# Altium footprint library Package_TO_SOT_THT.PcbLib: 236 footprints (part 13 of 15)
Each footprint in its own frame and in the unit in brackets; x right, y up, seen from the top. Pads: shape width x height; smd on the part's side, far side on the other; paste and mask are expansions set on the pad; w line width, h text height; cw(c..) or ccw(c..) is an arc to the next point about the centre after c.
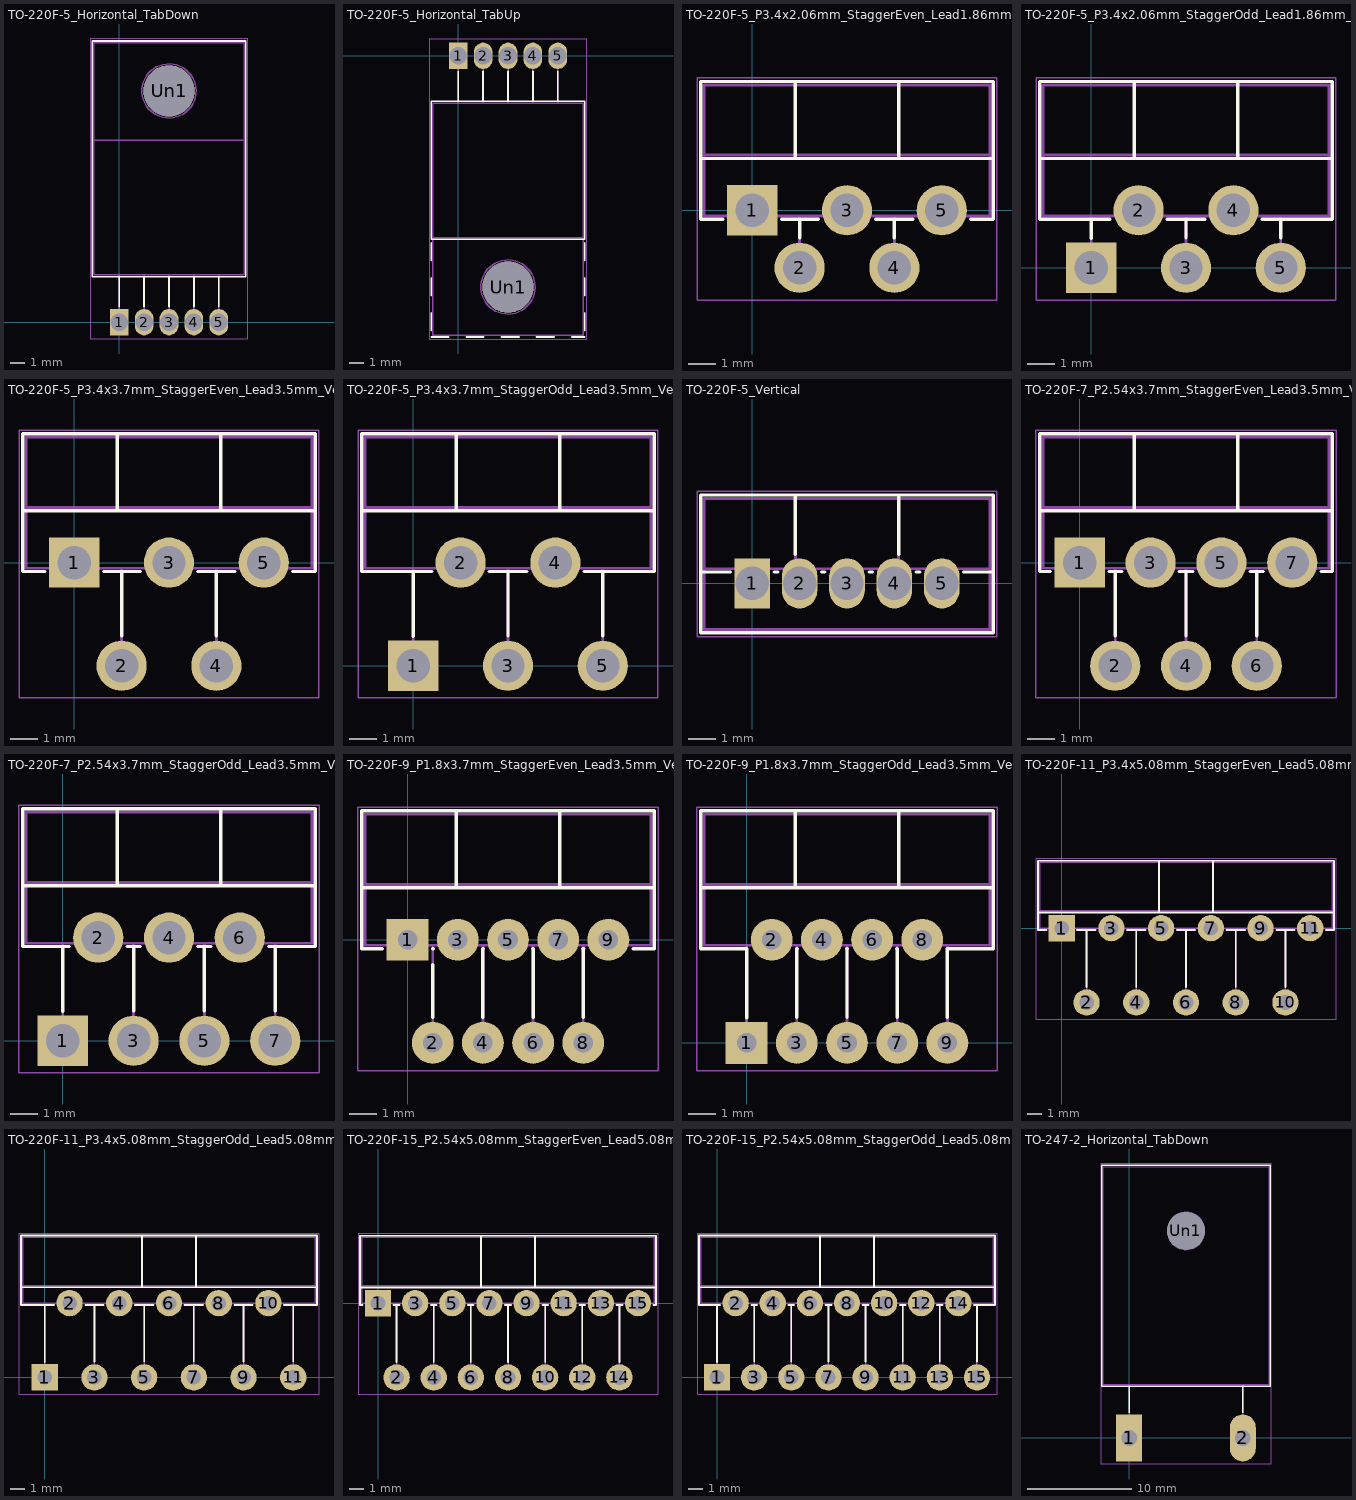
[diagram p12: the footprints below, top view; thin cyan lines are the x and y axes]

## TO-220F-5_Horizontal_TabDown [mm]
pads (6):
  rect 1.275x1.8 hole 1.2: 1(0,0)
  rrect100% 1.275x1.8 hole 1.2: 2(1.7,0) 3(3.4,0) 4(5.1,0) 5(6.8,0)
  rrect100% 3.5x3.5 hole 3.5: Un1(3.4,15.8)
F.SilkS:
  lines w0.12: 0,1.05 0,3.11 ; 1.7,1.05 1.7,3.11 ; 3.4,1.05 3.4,3.11 ; 5.1,1.05 5.1,3.11 ; 6.8,1.05 6.8,3.11 ; -1.85,3.11 8.65,3.11 8.65,19.22 -1.85,19.22 -1.85,3.11
F.CrtYd:
  lines w0.05: -1.98,-1.15 8.78,-1.15 8.78,19.35 -1.98,19.35 -1.98,-1.15
F.Fab:
  circle w0.1: c3.4,15.8 r1.85
  lines w0.1: 0,0 0,3.23 ; 1.7,0 1.7,3.23 ; 3.4,0 3.4,3.23 ; 5.1,0 5.1,3.23 ; 6.8,0 6.8,3.23 ; -1.73,12.42 8.53,12.42 ; -1.73,12.42 8.53,12.42 ; -1.73,12.42 -1.73,3.23 8.53,3.23 8.53,12.42 ; -1.73,12.42 -1.73,19.1 8.53,19.1 8.53,12.42
  text "'.Designator'" at -0.647,19.38 h1

## TO-220F-5_Horizontal_TabUp [mm]
pads (6):
  rect 1.275x1.8 hole 1.2: 1(0,0)
  rrect100% 1.275x1.8 hole 1.2: 2(1.7,0) 3(3.4,0) 4(5.1,0) 5(6.8,0)
  rrect100% 3.5x3.5 hole 3.5: Un1(3.4,-15.8)
F.SilkS:
  lines w0.12: -1.85,-19.22 -0.651,-19.22 ; -1.85,-18.78 -1.85,-17.58 ; -1.85,-16.38 -1.85,-15.18 ; -1.85,-13.98 -1.85,-12.78 ; 0,-3.11 0,-1.05 ; 0.55,-19.22 1.75,-19.22 ; 1.7,-3.11 1.7,-1.05 ; 2.95,-19.22 4.15,-19.22 ; 3.4,-3.11 3.4,-1.05 ; 5.1,-3.11 5.1,-1.05 ; 5.35,-19.22 6.55,-19.22 ; 6.8,-3.11 6.8,-1.05 ; 7.75,-19.22 8.65,-19.22 ; 8.65,-18.78 8.65,-17.58 ; 8.65,-16.38 8.65,-15.18 ; 8.65,-13.98 8.65,-12.78 ; -1.85,-12.54 8.65,-12.54 8.65,-3.11 -1.85,-3.11 -1.85,-12.54
F.CrtYd:
  lines w0.05: -1.98,-19.35 -1.98,1.15 8.78,1.15 8.78,-19.35 -1.98,-19.35
F.Fab:
  circle w0.1: c3.4,-15.8 r1.85
  lines w0.1: 0,-3.23 0,0 ; 1.7,-3.23 1.7,0 ; 3.4,-3.23 3.4,0 ; 5.1,-3.23 5.1,0 ; 6.8,-3.23 6.8,0 ; -1.73,-12.42 -1.73,-19.1 8.53,-19.1 8.53,-12.42 ; -1.73,-12.42 8.53,-12.42 ; -1.73,-12.42 -1.73,-3.23 8.53,-3.23 8.53,-12.42 ; -1.73,-12.42 8.53,-12.42
  text "'.Designator'" at -0.647,-21.06 h1

## TO-220F-5_P3.4x2.06mm_StaggerEven_Lead1.86mm_Vertical [mm]
pads (5):
  rect 1.8x1.8 hole 1.2: 1(0,0)
  rrect100% 1.8x1.8 hole 1.2: 2(1.7,-2.06) 3(3.4,0) 4(5.1,-2.06) 5(6.8,0)
F.SilkS:
  lines w0.12: -1.85,1.861 8.65,1.861 ; -1.05,-0.321 -1.85,-0.321 -1.85,4.62 8.65,4.62 8.65,-0.321 7.832,-0.321 ; 1.05,-0.321 2.369,-0.321 ; 1.55,1.861 1.55,4.62 ; 1.7,-0.995 1.7,-0.321 ; 4.432,-0.321 5.769,-0.321 ; 5.1,-0.995 5.1,-0.321 ; 5.25,1.861 5.25,4.62
F.CrtYd:
  lines w0.05: -1.98,-3.22 -1.98,4.75 8.78,4.75 8.78,-3.22 -1.98,-3.22
F.Fab:
  lines w0.1: -1.73,1.98 8.53,1.98 ; 1.55,1.98 1.55,4.5 ; 1.7,-2.06 1.7,-0.2 ; 5.1,-2.06 5.1,-0.2 ; 5.25,1.98 5.25,4.5 ; -1.73,-0.2 8.53,-0.2 8.53,4.5 -1.73,4.5 -1.73,-0.2
  text "'.Designator'" at -0.647,4.78 h1

## TO-220F-5_P3.4x2.06mm_StaggerOdd_Lead1.86mm_Vertical [mm]
pads (5):
  rect 1.8x1.8 hole 1.2: 1(0,0)
  rrect100% 1.8x1.8 hole 1.2: 2(1.7,2.06) 3(3.4,0) 4(5.1,2.06) 5(6.8,0)
F.SilkS:
  lines w0.12: -1.85,3.921 8.65,3.921 ; 0,1.05 0,1.739 ; 0.669,1.739 -1.85,1.739 -1.85,6.68 8.65,6.68 8.65,1.739 6.132,1.739 ; 1.55,3.921 1.55,6.68 ; 2.732,1.739 4.069,1.739 ; 3.4,1.065 3.4,1.739 ; 5.25,3.921 5.25,6.68 ; 6.8,1.065 6.8,1.739
F.CrtYd:
  lines w0.05: -1.98,-1.16 -1.98,6.81 8.78,6.81 8.78,-1.16 -1.98,-1.16
F.Fab:
  lines w0.1: -1.73,4.04 8.53,4.04 ; 0,0 0,1.86 ; 1.55,4.04 1.55,6.56 ; 3.4,0 3.4,1.86 ; 5.25,4.04 5.25,6.56 ; 6.8,0 6.8,1.86 ; -1.73,1.86 8.53,1.86 8.53,6.56 -1.73,6.56 -1.73,1.86
  text "'.Designator'" at -0.647,6.84 h1

## TO-220F-5_P3.4x3.7mm_StaggerEven_Lead3.5mm_Vertical [mm]
pads (5):
  rect 1.8x1.8 hole 1.2: 1(0,0)
  rrect100% 1.8x1.8 hole 1.2: 2(1.7,-3.7) 3(3.4,0) 4(5.1,-3.7) 5(6.8,0)
F.SilkS:
  lines w0.12: -1.85,1.861 8.65,1.861 ; -1.05,-0.321 -1.85,-0.321 -1.85,4.62 8.65,4.62 8.65,-0.321 7.832,-0.321 ; 1.05,-0.321 2.369,-0.321 ; 1.55,1.861 1.55,4.62 ; 1.7,-2.635 1.7,-0.321 ; 4.432,-0.321 5.769,-0.321 ; 5.1,-2.635 5.1,-0.321 ; 5.25,1.861 5.25,4.62
F.CrtYd:
  lines w0.05: -1.98,-4.85 -1.98,4.75 8.78,4.75 8.78,-4.85 -1.98,-4.85
F.Fab:
  lines w0.1: -1.73,1.98 8.53,1.98 ; 1.55,1.98 1.55,4.5 ; 1.7,-3.7 1.7,-0.2 ; 5.1,-3.7 5.1,-0.2 ; 5.25,1.98 5.25,4.5 ; -1.73,-0.2 8.53,-0.2 8.53,4.5 -1.73,4.5 -1.73,-0.2
  text "'.Designator'" at -0.647,4.78 h1

## TO-220F-5_P3.4x3.7mm_StaggerOdd_Lead3.5mm_Vertical [mm]
pads (5):
  rect 1.8x1.8 hole 1.2: 1(0,0)
  rrect100% 1.8x1.8 hole 1.2: 2(1.7,3.7) 3(3.4,0) 4(5.1,3.7) 5(6.8,0)
F.SilkS:
  lines w0.12: -1.85,5.561 8.65,5.561 ; 0,1.049 0,3.379 ; 0.669,3.379 -1.85,3.379 -1.85,8.32 8.65,8.32 8.65,3.379 6.132,3.379 ; 1.55,5.561 1.55,8.32 ; 2.732,3.379 4.069,3.379 ; 3.4,1.065 3.4,3.379 ; 5.25,5.561 5.25,8.32 ; 6.8,1.065 6.8,3.379
F.CrtYd:
  lines w0.05: -1.98,-1.15 -1.98,8.45 8.78,8.45 8.78,-1.15 -1.98,-1.15
F.Fab:
  lines w0.1: -1.73,5.68 8.53,5.68 ; 0,0 0,3.5 ; 1.55,5.68 1.55,8.2 ; 3.4,0 3.4,3.5 ; 5.25,5.68 5.25,8.2 ; 6.8,0 6.8,3.5 ; -1.73,3.5 -1.73,8.2 8.53,8.2 8.53,3.5 -1.73,3.5
  text "'.Designator'" at -0.647,8.48 h1

## TO-220F-5_Vertical [mm]
pads (5):
  rect 1.275x1.8 hole 1.2: 1(0,0)
  rrect100% 1.275x1.8 hole 1.2: 2(1.7,0) 3(3.4,0) 4(5.1,0) 5(6.8,0)
F.SilkS:
  lines w0.12: -1.85,0.408 -0.788,0.408 ; 0.788,0.408 0.913,0.408 ; 1.55,1.05 1.55,3.168 ; 2.488,0.408 2.613,0.408 ; 4.188,0.408 4.313,0.408 ; 5.25,1.05 5.25,3.168 ; 5.888,0.408 6.013,0.408 ; 7.588,0.408 8.65,0.408 ; -1.85,-1.773 8.65,-1.773 8.65,3.168 -1.85,3.168 -1.85,-1.773
F.CrtYd:
  lines w0.05: -1.98,-1.91 8.78,-1.91 8.78,3.3 -1.98,3.3 -1.98,-1.91
F.Fab:
  lines w0.1: -1.73,0.527 8.53,0.527 ; 1.55,0.527 1.55,3.047 ; 5.25,0.527 5.25,3.047 ; -1.73,-1.653 8.53,-1.653 8.53,3.047 -1.73,3.047 -1.73,-1.653
  text "'.Designator'" at -0.647,3.327 h1

## TO-220F-7_P2.54x3.7mm_StaggerEven_Lead3.5mm_Vertical [mm]
pads (7):
  rect 1.8x1.8 hole 1.2: 1(0,0)
  rrect100% 1.8x1.8 hole 1.2: 2(1.27,-3.7) 3(2.54,0) 4(3.81,-3.7) 5(5.08,0) 6(6.35,-3.7) 7(7.62,0)
F.SilkS:
  lines w0.12: -1.44,1.861 9.06,1.861 ; -1.05,-0.321 -1.44,-0.321 -1.44,4.62 9.06,4.62 9.06,-0.321 8.652,-0.321 ; 1.05,-0.321 1.509,-0.321 ; 1.27,-2.635 1.27,-0.321 ; 1.96,1.861 1.96,4.62 ; 3.572,-0.321 4.049,-0.321 ; 3.81,-2.635 3.81,-0.321 ; 5.66,1.861 5.66,4.62 ; 6.112,-0.321 6.589,-0.321 ; 6.35,-2.635 6.35,-0.321
F.CrtYd:
  lines w0.05: -1.57,-4.85 9.19,-4.85 9.19,4.75 -1.57,4.75 -1.57,-4.85
F.Fab:
  lines w0.1: -1.32,1.98 8.94,1.98 ; 1.27,-3.7 1.27,-0.2 ; 1.96,1.98 1.96,4.5 ; 3.81,-3.7 3.81,-0.2 ; 5.66,1.98 5.66,4.5 ; 6.35,-3.7 6.35,-0.2 ; -1.32,-0.2 8.94,-0.2 8.94,4.5 -1.32,4.5 -1.32,-0.2
  text "'.Designator'" at -0.237,4.78 h1

## TO-220F-7_P2.54x3.7mm_StaggerOdd_Lead3.5mm_Vertical [mm]
pads (7):
  rect 1.8x1.8 hole 1.2: 1(0,0)
  rrect100% 1.8x1.8 hole 1.2: 2(1.27,3.7) 3(2.54,0) 4(3.81,3.7) 5(5.08,0) 6(6.35,3.7) 7(7.62,0)
F.SilkS:
  lines w0.12: -1.44,5.561 9.06,5.561 ; 0,1.049 0,3.379 ; 0.239,3.379 -1.44,3.379 -1.44,8.32 9.06,8.32 9.06,3.379 7.382,3.379 ; 1.96,5.561 1.96,8.32 ; 2.302,3.379 2.779,3.379 ; 2.54,1.065 2.54,3.379 ; 4.842,3.379 5.319,3.379 ; 5.08,1.065 5.08,3.379 ; 5.66,5.561 5.66,8.32 ; 7.62,1.065 7.62,3.379
F.CrtYd:
  lines w0.05: -1.57,-1.15 -1.57,8.45 9.19,8.45 9.19,-1.15 -1.57,-1.15
F.Fab:
  lines w0.1: -1.32,5.68 8.94,5.68 ; 0,0 0,3.5 ; 1.96,5.68 1.96,8.2 ; 2.54,0 2.54,3.5 ; 5.08,0 5.08,3.5 ; 5.66,5.68 5.66,8.2 ; 7.62,0 7.62,3.5 ; -1.32,3.5 8.94,3.5 8.94,8.2 -1.32,8.2 -1.32,3.5
  text "'.Designator'" at -0.237,8.48 h1

## TO-220F-9_P1.8x3.7mm_StaggerEven_Lead3.5mm_Vertical [mm]
pads (9):
  rect 1.5x1.5 hole 0.7: 1(0,0)
  rrect100% 1.5x1.5 hole 0.7: 2(0.9,-3.7) 3(1.8,0) 4(2.7,-3.7) 5(3.6,0) 6(4.5,-3.7) 7(5.4,0) 8(6.3,-3.7) 9(7.2,0)
F.SilkS:
  lines w0.12: -1.65,1.861 8.85,1.861 ; -0.9,-0.321 -1.65,-0.321 -1.65,4.62 8.85,4.62 8.85,-0.321 8.087,-0.321 ; 0.9,-2.785 0.9,-0.9 ; 0.9,-0.321 0.914,-0.321 ; 1.75,1.861 1.75,4.62 ; 2.687,-0.321 2.714,-0.321 ; 2.7,-2.785 2.7,-0.321 ; 4.487,-0.321 4.514,-0.321 ; 4.5,-2.785 4.5,-0.321 ; 5.45,1.861 5.45,4.62 ; 6.287,-0.321 6.314,-0.321 ; 6.301,-2.785 6.301,-0.321
F.CrtYd:
  lines w0.05: -1.78,-4.7 -1.78,4.75 8.98,4.75 8.98,-4.7 -1.78,-4.7
F.Fab:
  lines w0.1: -1.53,1.98 8.73,1.98 ; 0.9,-3.7 0.9,-0.2 ; 1.75,1.98 1.75,4.5 ; 2.7,-3.7 2.7,-0.2 ; 4.5,-3.7 4.5,-0.2 ; 5.45,1.98 5.45,4.5 ; 6.3,-3.7 6.3,-0.2 ; -1.53,-0.2 8.73,-0.2 8.73,4.5 -1.53,4.5 -1.53,-0.2
  text "'.Designator'" at -0.447,4.78 h1

## TO-220F-9_P1.8x3.7mm_StaggerOdd_Lead3.5mm_Vertical [mm]
pads (9):
  rect 1.5x1.5 hole 0.7: 1(0,0)
  rrect100% 1.5x1.5 hole 0.7: 2(0.9,3.7) 3(1.8,0) 4(2.7,3.7) 5(3.6,0) 6(4.5,3.7) 7(5.4,0) 8(6.3,3.7) 9(7.2,0)
F.SilkS:
  lines w0.12: -1.65,5.561 8.85,5.561 ; 0,0.9 0,3.379 ; 0.014,3.379 -1.65,3.379 -1.65,8.32 8.85,8.32 8.85,3.379 7.187,3.379 ; 1.75,5.561 1.75,8.32 ; 1.787,3.379 1.814,3.379 ; 1.8,0.915 1.8,3.379 ; 3.587,3.379 3.614,3.379 ; 3.6,0.915 3.6,3.379 ; 5.387,3.379 5.414,3.379 ; 5.4,0.915 5.4,3.379 ; 5.45,5.561 5.45,8.32 ; 7.201,0.915 7.201,3.379
F.CrtYd:
  lines w0.05: -1.78,-1 -1.78,8.45 8.98,8.45 8.98,-1 -1.78,-1
F.Fab:
  lines w0.1: -1.53,5.68 8.73,5.68 ; 0,0 0,3.5 ; 1.75,5.68 1.75,8.2 ; 1.8,0 1.8,3.5 ; 3.6,0 3.6,3.5 ; 5.4,0 5.4,3.5 ; 5.45,5.68 5.45,8.2 ; 7.2,0 7.2,3.5 ; -1.53,3.5 8.73,3.5 8.73,8.2 -1.53,8.2 -1.53,3.5
  text "'.Designator'" at -0.447,8.48 h1

## TO-220F-11_P3.4x5.08mm_StaggerEven_Lead5.08mm_Vertical [mm]
pads (11):
  rect 1.8x1.8 hole 1: 1(0,0)
  rrect100% 1.8x1.8 hole 1: 2(1.7,-5.08) 3(3.4,0) 4(5.1,-5.08) 5(6.8,0) 6(8.5,-5.08) 7(10.2,0) 8(11.9,-5.08) 9(13.6,0) 10(15.3,-5.08) 11(17,0)
F.SilkS:
  lines w0.12: -1.63,1.08 18.63,1.08 ; -1.05,-0.121 -1.63,-0.121 -1.63,4.62 18.63,4.62 18.63,-0.121 18.065,-0.121 ; 1.05,-0.121 2.335,-0.121 ; 1.7,-4.015 1.7,-0.121 ; 4.465,-0.121 5.735,-0.121 ; 5.1,-4.015 5.1,-0.121 ; 6.65,1.08 6.65,4.62 ; 7.865,-0.121 9.135,-0.121 ; 8.5,-4.015 8.5,-0.121 ; 10.35,1.08 10.35,4.62 ; 11.265,-0.121 12.535,-0.121 ; 11.9,-4.015 11.9,-0.121 ; 14.665,-0.121 15.935,-0.121 ; 15.3,-4.015 15.3,-0.121
F.CrtYd:
  lines w0.05: -1.76,-6.23 18.76,-6.23 18.76,4.75 -1.76,4.75 -1.76,-6.23
F.Fab:
  lines w0.1: -1.51,1.2 18.51,1.2 ; 1.7,-5.08 1.7,0 ; 5.1,-5.08 5.1,0 ; 6.65,1.2 6.65,4.5 ; 8.5,-5.08 8.5,0 ; 10.35,1.2 10.35,4.5 ; 11.9,-5.08 11.9,0 ; 15.3,-5.08 15.3,0 ; -1.51,0 18.51,0 18.51,4.5 -1.51,4.5 -1.51,0
  text "'.Designator'" at 4.453,4.78 h1

## TO-220F-11_P3.4x5.08mm_StaggerOdd_Lead5.08mm_Vertical [mm]
pads (11):
  rect 1.8x1.8 hole 1: 1(0,0)
  rrect100% 1.8x1.8 hole 1: 2(1.7,5.08) 3(3.4,0) 4(5.1,5.08) 5(6.8,0) 6(8.5,5.08) 7(10.2,0) 8(11.9,5.08) 9(13.6,0) 10(15.3,5.08) 11(17,0)
F.SilkS:
  lines w0.12: -1.63,6.16 18.63,6.16 ; 0,1.05 0,4.959 ; 0.635,4.959 -1.63,4.959 -1.63,9.7 18.63,9.7 18.63,4.959 16.365,4.959 ; 2.765,4.959 4.035,4.959 ; 3.4,1.065 3.4,4.959 ; 6.165,4.959 7.435,4.959 ; 6.65,6.16 6.65,9.7 ; 6.8,1.065 6.8,4.959 ; 9.566,4.959 10.835,4.959 ; 10.2,1.065 10.2,4.959 ; 10.35,6.16 10.35,9.7 ; 12.965,4.959 14.235,4.959 ; 13.6,1.065 13.6,4.959 ; 17,1.065 17,4.959
F.CrtYd:
  lines w0.05: -1.76,-1.16 -1.76,9.83 18.76,9.83 18.76,-1.16 -1.76,-1.16
F.Fab:
  lines w0.1: -1.51,6.28 18.51,6.28 ; 0,0 0,5.08 ; 3.4,0 3.4,5.08 ; 6.65,6.28 6.65,9.58 ; 6.8,0 6.8,5.08 ; 10.2,0 10.2,5.08 ; 10.35,6.28 10.35,9.58 ; 13.6,0 13.6,5.08 ; 17,0 17,5.08 ; -1.51,5.08 -1.51,9.58 18.51,9.58 18.51,5.08 -1.51,5.08
  text "'.Designator'" at 4.453,9.86 h1

## TO-220F-15_P2.54x5.08mm_StaggerEven_Lead5.08mm_Vertical [mm]
pads (15):
  rect 1.8x1.8 hole 1: 1(0,0)
  rrect100% 1.8x1.8 hole 1: 2(1.27,-5.08) 3(2.54,0) 4(3.81,-5.08) 5(5.08,0) 6(6.35,-5.08) 7(7.62,0) 8(8.89,-5.08) 9(10.16,0) 10(11.43,-5.08) 11(12.7,0) 12(13.97,-5.08) 13(15.24,0) 14(16.51,-5.08) 15(17.78,0)
F.SilkS:
  lines w0.12: -1.24,1.08 19.02,1.08 ; -1.05,-0.121 -1.24,-0.121 -1.24,4.62 19.02,4.62 19.02,-0.121 18.845,-0.121 ; 1.05,-0.121 1.475,-0.121 ; 1.27,-4.015 1.27,-0.121 ; 3.605,-0.121 4.016,-0.121 ; 3.81,-4.015 3.81,-0.121 ; 6.145,-0.121 6.555,-0.121 ; 6.35,-4.015 6.35,-0.121 ; 7.041,1.08 7.041,4.62 ; 8.685,-0.121 9.095,-0.121 ; 8.89,-4.015 8.89,-0.121 ; 10.74,1.08 10.74,4.62 ; 11.225,-0.121 11.635,-0.121 ; 11.43,-4.015 11.43,-0.121 ; 13.765,-0.121 14.175,-0.121 ; 13.97,-4.015 13.97,-0.121 ; 16.305,-0.121 16.715,-0.121 ; 16.51,-4.015 16.51,-0.121
F.CrtYd:
  lines w0.05: -1.37,-6.23 -1.37,4.75 19.15,4.75 19.15,-6.23 -1.37,-6.23
F.Fab:
  lines w0.1: -1.12,1.2 18.9,1.2 ; 1.27,-5.08 1.27,0 ; 3.81,-5.08 3.81,0 ; 6.35,-5.08 6.35,0 ; 7.04,1.2 7.04,4.5 ; 8.89,-5.08 8.89,0 ; 10.74,1.2 10.74,4.5 ; 11.43,-5.08 11.43,0 ; 13.97,-5.08 13.97,0 ; 16.51,-5.08 16.51,0 ; -1.12,0 18.9,0 18.9,4.5 -1.12,4.5 -1.12,0
  text "'.Designator'" at 4.843,4.78 h1

## TO-220F-15_P2.54x5.08mm_StaggerOdd_Lead5.08mm_Vertical [mm]
pads (15):
  rect 1.8x1.8 hole 1: 1(0,0)
  rrect100% 1.8x1.8 hole 1: 2(1.27,5.08) 3(2.54,0) 4(3.81,5.08) 5(5.08,0) 6(6.35,5.08) 7(7.62,0) 8(8.89,5.08) 9(10.16,0) 10(11.43,5.08) 11(12.7,0) 12(13.97,5.08) 13(15.24,0) 14(16.51,5.08) 15(17.78,0)
F.SilkS:
  lines w0.12: -1.24,6.16 19.02,6.16 ; 0,1.05 0,4.959 ; 0.205,4.959 -1.24,4.959 -1.24,9.7 19.02,9.7 19.02,4.959 17.575,4.959 ; 2.336,4.959 2.745,4.959 ; 2.54,1.065 2.54,4.959 ; 4.875,4.959 5.285,4.959 ; 5.08,1.065 5.08,4.959 ; 7.041,6.16 7.041,9.7 ; 7.415,4.959 7.825,4.959 ; 7.62,1.065 7.62,4.959 ; 9.955,4.959 10.365,4.959 ; 10.16,1.065 10.16,4.959 ; 10.74,6.16 10.74,9.7 ; 12.495,4.959 12.905,4.959 ; 12.7,1.065 12.7,4.959 ; 15.035,4.959 15.445,4.959 ; 15.24,1.065 15.24,4.959 ; 17.78,1.065 17.78,4.959
F.CrtYd:
  lines w0.05: -1.37,-1.16 19.15,-1.16 19.15,9.83 -1.37,9.83 -1.37,-1.16
F.Fab:
  lines w0.1: -1.12,6.28 18.9,6.28 ; 0,0 0,5.08 ; 2.54,0 2.54,5.08 ; 5.08,0 5.08,5.08 ; 7.04,6.28 7.04,9.58 ; 7.62,0 7.62,5.08 ; 10.16,0 10.16,5.08 ; 10.74,6.28 10.74,9.58 ; 12.7,0 12.7,5.08 ; 15.24,0 15.24,5.08 ; 17.78,0 17.78,5.08 ; -1.12,5.08 18.9,5.08 18.9,9.58 -1.12,9.58 -1.12,5.08
  text "'.Designator'" at 4.843,9.86 h1

## TO-247-2_Horizontal_TabDown [mm]
pads (3):
  rect 2.5x4.5 hole 1.5: 1(0,0)
  rrect100% 2.5x4.5 hole 1.5: 2(10.9,0)
  rrect100% 3.6x3.6 hole 3.6: Un1(5.45,19.86)
F.SilkS:
  lines w0.12: 0,2.4 0,4.96 ; 10.9,2.4 10.9,4.96 ; -2.62,4.96 13.52,4.96 13.52,26.15 -2.62,26.15 -2.62,4.96
F.CrtYd:
  lines w0.05: -2.75,-2.5 13.65,-2.5 13.65,26.28 -2.75,26.28 -2.75,-2.5
F.Fab:
  circle w0.1: c5.45,19.86 r1.805
  lines w0.1: 0,0 0,5.08 ; 10.9,0 10.9,5.08 ; -2.5,5.08 13.4,5.08 13.4,26.03 -2.5,26.03 -2.5,5.08
  text "'.Designator'" at 1.403,26.31 h1